# Altium schematic symbol library TPA3110D2PWPR.SchLib: 1 symbol
Pins are listed as number, name and electrical type; pins without a type are passive.

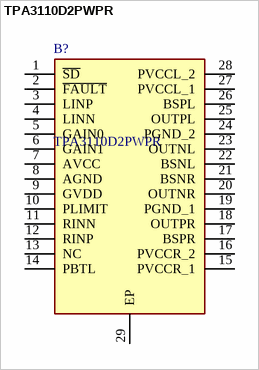
[diagram p0: symbol TPA3110D2PWPR]

## TPA3110D2PWPR
designator B?
15W Filter-Free Class D Stereo Amplifier with SpeakerGuard (TPA3110); Manufacturer_Name: Texas Instruments; Geometry.Height: 1.2mm; Mouser Part Number: 595-TPA3110D2PWPR; Mouser Price/Stock: https://www.mouser.co.uk/ProductDetail/Texas-Instruments/TPA3110D2PWPR?qs=%252BoZa6nMD7VvnY6EEHpn2MA%3D%3D; Manufacturer_Part_Number: TPA3110D2PWPR; Datasheet Link: http://www.ti.com/lit/gpn/tpa3110d2
footprint SOP65P640X120-29N
pins: 1 ~{SD}, 2 ~{FAULT}, 3 LINP, 4 LINN, 5 GAIN0, 6 GAIN1, 7 AVCC, 8 AGND, 9 GVDD, 10 PLIMIT, 11 RINN, 12 RINP, 13 NC, 14 PBTL, 15 PVCCR_1, 16 PVCCR_2, 17 BSPR, 18 OUTPR, 19 PGND_1, 20 OUTNR, 21 BSNR, 22 BSNL, 23 OUTNL, 24 PGND_2, 25 OUTPL, 26 BSPL, 27 PVCCL_1, 28 PVCCL_2, 29 EP